# EAGLE library part HARTING-24PIN-CONNECTOR (library 32teeth - Harting Socket)
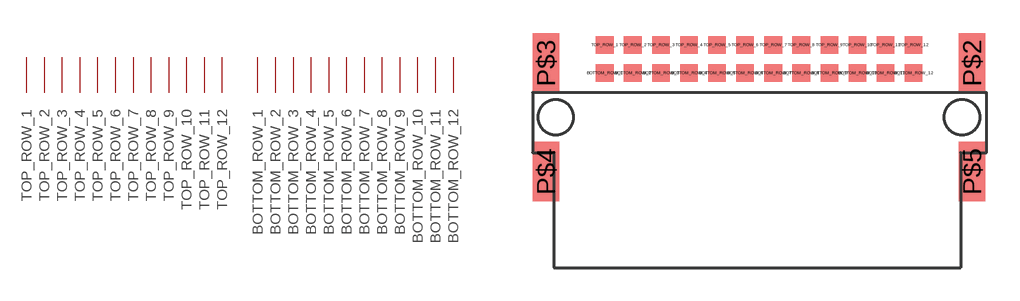
[diagram p0: symbol with the pads of HARTING-24PIN-CONNECTOR; footprint HARTING-24PIN-CONNECTOR]

Designator prefix -

## HARTING-24PIN-CONNECTOR  [HARTING-24PIN-CONNECTOR]
BOTTOM_ROW_1  BOTTOM_ROW_1
BOTTOM_ROW_2  BOTTOM_ROW_2
BOTTOM_ROW_3  BOTTOM_ROW_3
BOTTOM_ROW_4  BOTTOM_ROW_4
BOTTOM_ROW_5  BOTTOM_ROW_5
BOTTOM_ROW_6  BOTTOM_ROW_6
BOTTOM_ROW_7  BOTTOM_ROW_7
BOTTOM_ROW_8  BOTTOM_ROW_8
BOTTOM_ROW_9  BOTTOM_ROW_9
BOTTOM_ROW_10  BOTTOM_ROW_10
BOTTOM_ROW_11  BOTTOM_ROW_11
BOTTOM_ROW_12  BOTTOM_ROW_12
TOP_ROW_1  TOP_ROW_1
TOP_ROW_2  TOP_ROW_2
TOP_ROW_3  TOP_ROW_3
TOP_ROW_4  TOP_ROW_4
TOP_ROW_5  TOP_ROW_5
TOP_ROW_6  TOP_ROW_6
TOP_ROW_7  TOP_ROW_7
TOP_ROW_8  TOP_ROW_8
TOP_ROW_9  TOP_ROW_9
TOP_ROW_10  TOP_ROW_10
TOP_ROW_11  TOP_ROW_11
TOP_ROW_12  TOP_ROW_12

## Footprint HARTING-24PIN-CONNECTOR (pad centres in mm)
smd 0.8 x 0.8: BOTTOM_ROW_1 -7,0.87; BOTTOM_ROW_2 -5.73,0.87; BOTTOM_ROW_3 -4.46,0.87; BOTTOM_ROW_4 -3.19,0.87; BOTTOM_ROW_5 -1.92,0.87; BOTTOM_ROW_6 -0.65,0.87; BOTTOM_ROW_7 0.62,0.87; BOTTOM_ROW_8 1.89,0.87; BOTTOM_ROW_9 3.16,0.87; BOTTOM_ROW_10 4.43,0.87; BOTTOM_ROW_11 5.7,0.87; BOTTOM_ROW_12 6.97,0.87; TOP_ROW_1 -7,2.14; TOP_ROW_2 -5.73,2.14; TOP_ROW_3 -4.46,2.14; TOP_ROW_4 -3.19,2.14; TOP_ROW_5 -1.92,2.14; TOP_ROW_6 -0.65,2.14; TOP_ROW_7 0.62,2.14; TOP_ROW_8 1.89,2.14; TOP_ROW_9 3.16,2.14; TOP_ROW_10 4.43,2.14; TOP_ROW_11 5.7,2.14; TOP_ROW_12 6.97,2.14
smd 1.2 x 2.7: P$2 9.61,1.32; P$3 -9.66,1.32; P$4 -9.66,-3.583; P$5 9.61,-3.583